# Altium footprint library 20682-030E-02.PcbLib: 1 footprints
Each footprint in its own frame and in the unit in brackets; x right, y up, seen from the top. Pads: shape width x height; smd on the part's side, far side on the other; paste and mask are expansions set on the pad; w line width, h text height; cw(c..) or ccw(c..) is an arc to the next point about the centre after c.
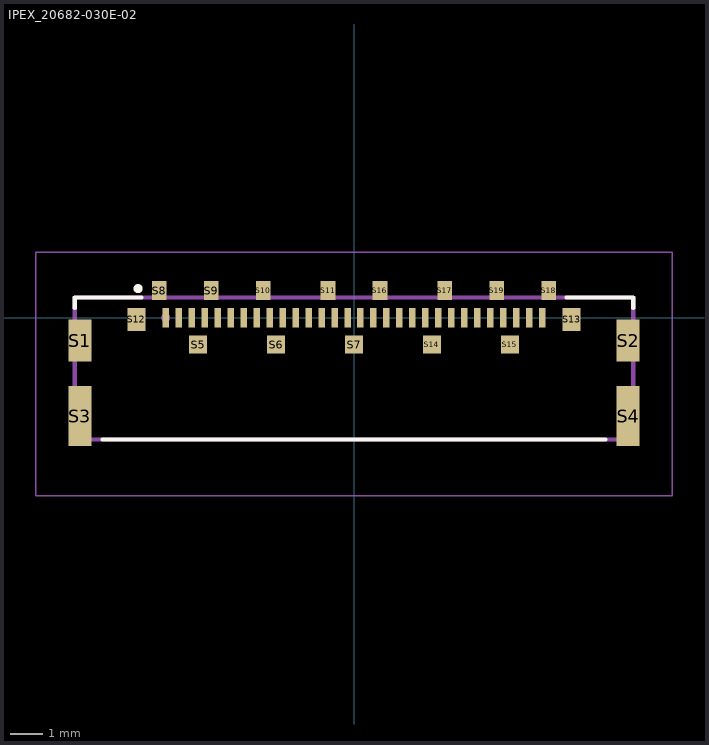
[diagram p0: the footprint, top view; thin cyan lines are the x and y axes]

## IPEX_20682-030E-02 [mm]
pads (49):
  rect 0.2x0.6 smd: 1(-5.8,0) 2(-5.4,0) 3(-5,0) 4(-4.6,0) 5(-4.2,0) 6(-3.8,0) 7(-3.4,0) 8(-3,0) 9(-2.6,0) 10(-2.2,0) 11(-1.8,0) 12(-1.4,0) 13(-1,0) 14(-0.6,0) 15(-0.2,0) 16(0.2,0) 17(0.6,0) 18(1,0) 19(1.4,0) 20(1.8,0) 21(2.2,0) 22(2.6,0) 23(3,0) 24(3.4,0) 25(3.8,0) 26(4.2,0) 27(4.6,0) 28(5,0) 29(5.4,0) 30(5.8,0)
  rect 0.71x1.3 smd: S1(-8.445,-0.7) S2(8.445,-0.7)
  rect 0.71x1.85 smd: S3(-8.445,-3.025) S4(8.445,-3.025)
  rect 0.55x0.55 smd: S5(-4.8,-0.825) S6(-2.4,-0.825) S7(0,-0.825) S14(2.4,-0.825) S15(4.8,-0.825)
  rect 0.45x0.58 smd: S8(-6,0.84) S9(-4.4,0.84) S10(-2.8,0.84) S11(-0.8,0.84) S16(0.8,0.84) S17(2.8,0.84) S18(6,0.84) S19(4.4,0.84)
  rect 0.55x0.7 smd: S12(-6.7,-0.05) S13(6.7,-0.05)
Top Overlay:
  circle w0.14: c-6.65,0.9 r0.07
  lines w0.127: -8.6,0.3 -8.6,0.63 -6.55,0.63 ; -7.75,-3.75 7.75,-3.75 ; 6.55,0.63 8.6,0.63 8.6,0.3
Mechanical 13:
  circle w0.14: c-5.8,0 r0.07
  lines w0.127: -8.6,-3.75 -8.6,0.63 8.6,0.63 8.6,-3.75 -8.6,-3.75
Mechanical 15:
  lines w0.05: -9.8,-5.48 -9.8,2.02 9.8,2.02 9.8,-5.48 -9.8,-5.48